# Altium footprint library Footprints.PcbLib: 2 footprints
Each footprint in its own frame and in the unit in brackets; x right, y up, seen from the top. Pads: shape width x height; smd on the part's side, far side on the other; paste and mask are expansions set on the pad; w line width, h text height; cw(c..) or ccw(c..) is an arc to the next point about the centre after c.
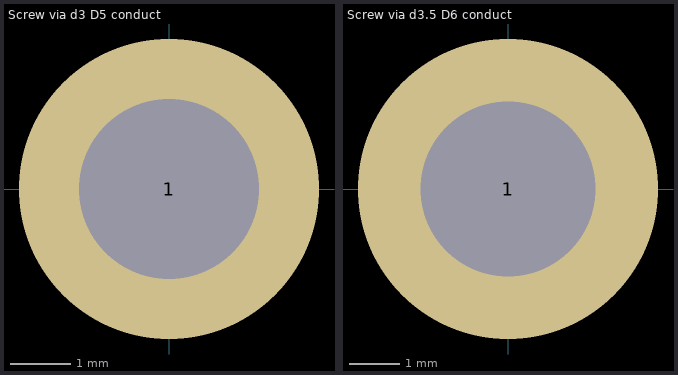
[diagram p0: the footprints below, top view; thin cyan lines are the x and y axes]

## Screw via d3 D5 conduct [mm] "Screw via d3 D5 conduct"
pads (1):
  round 5 hole 3: 1(0,0)
via 0,0 diameter 5 hole 3

## Screw via d3.5 D6 conduct [mm] "Screw via d3.5 D6 conduct"
pads (1):
  round 6 hole 3.5: 1(0,0)
via 0,0 diameter 6 hole 3.5